# Altium footprint library Connectors.PcbLib: 62 footprints (part 4 of 4)
Each footprint in its own frame and in the unit in brackets; x right, y up, seen from the top. Pads: shape width x height; smd on the part's side, far side on the other; paste and mask are expansions set on the pad; w line width, h text height; cw(c..) or ccw(c..) is an arc to the next point about the centre after c.
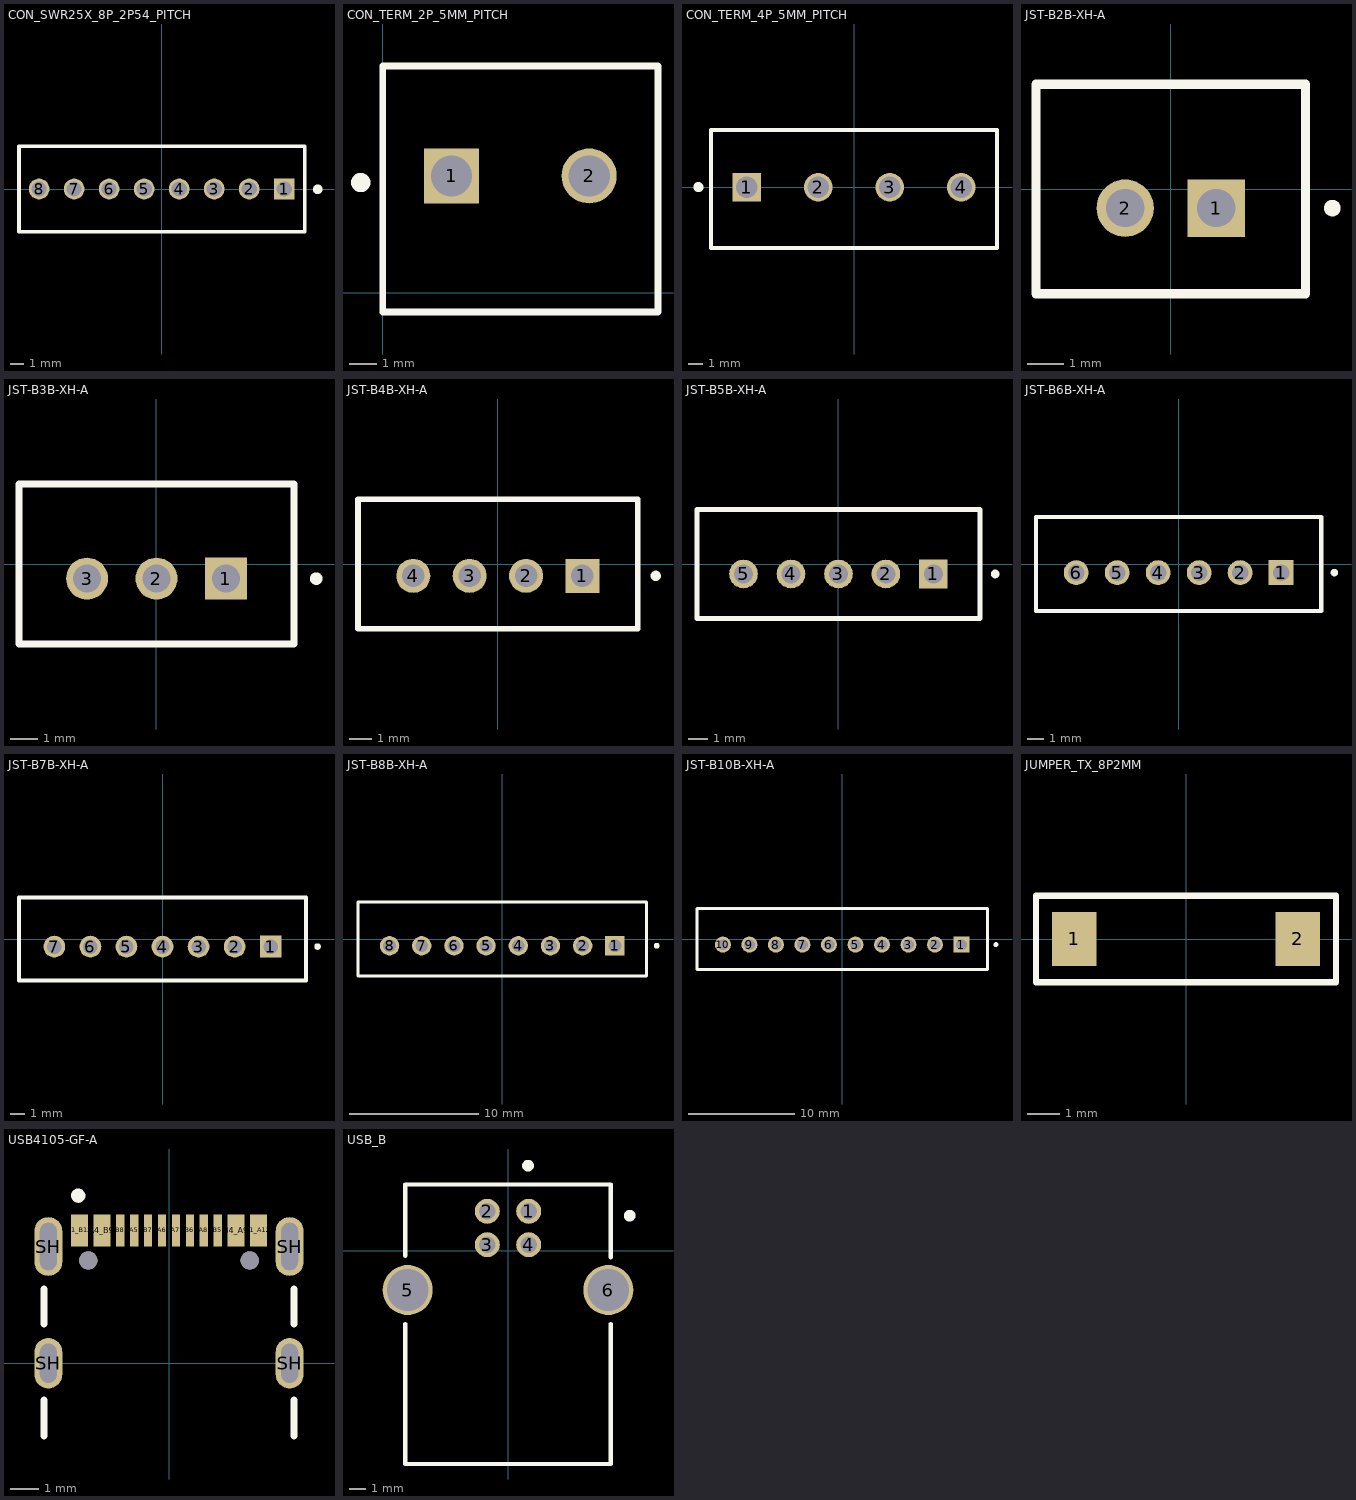
[diagram p3: the footprints below, top view; thin cyan lines are the x and y axes]

## CON_SWR25X_8P_2P54_PITCH [mm]
pads (8):
  rect 1.5x1.5 hole 1.1: 1(8.89,0)
  round 1.5 hole 1.1: 2(6.35,0) 3(3.81,0) 4(1.27,0) 5(-1.27,0) 6(-3.81,0) 7(-6.35,0) 8(-8.89,0)
Top Overlay:
  circle w0.5: c11.312,-0.024 r0.1
  lines w0.254: -10.35,-3.1 10.37,-3.1 10.37,3.1 -10.35,3.1 -10.35,-3.1
3D body "SWR25X-NRTC-S08-ST-BA.STEP": height 11.4, standoff -3.4, extent -10.18,-3.2 10.18,2.6

## CON_TERM_2P_5MM_PITCH [mm]
height 11.45
pads (2):
  rect 2x2 hole 1.5: 1(2.5,4.25)
  round 2 hole 1.5: 2(7.5,4.25)
Top Overlay:
  circle w0.5: c-0.799,4.01 r0.1
  lines w0.254: 0,-0.7 0,8.25 10,8.25 10,-0.7 0,-0.7
3D body "1935161.step": height 11.7, standoff -3.2, extent 0,-0.8 10.4,8.2

## CON_TERM_4P_5MM_PITCH [mm]
pads (4):
  rect 2x2 hole 1.5: 1(-7.5,0)
  round 2 hole 1.5: 2(-2.5,0) 3(2.5,0) 4(7.5,0)
Top Overlay:
  circle w0.5: c-10.881,0.012 r0.1
  lines w0.254: -10,-4.25 -10,4 10,4 10,-4.25 -10,-4.25
3D body "pxc_1935187_06_01_PT-1-5-4-5-0-H_3D.stp": height 11.3, standoff -3.5, extent -10.1,-5 10.57,4

## JST-B2B-XH-A [mm]
height 7
pads (2):
  rect 1.575x1.575 / inner round 1.575 / far side rect 1.575x1.575 hole 1.05: 1(1.25,-0.525)
  round 1.575 hole 1.05: 2(-1.25,-0.525)
Top Overlay:
  circle w0.254: c4.44,-0.525 r0.1
  lines w0.254: -3.7,-2.875 3.7,-2.875 3.7,2.875 -3.7,2.875 -3.7,-2.875
3D body "B2B-XH-A.STEP": height 7, standoff -3.4, extent -3.7,-2.875 3.7,2.875

## JST-B3B-XH-A [mm]
height 7
pads (3):
  rect 1.508x1.508 / inner round 1.508 / far side rect 1.508x1.508 hole 1: 1(2.5,-0.525)
  round 1.508 hole 1: 2(0,-0.525) 3(-2.5,-0.525)
Top Overlay:
  circle w0.254: c5.75,-0.525 r0.1
  lines w0.254: -4.95,-2.875 -4.95,2.875 4.95,2.875 4.95,-2.875 -4.95,-2.875
3D body "step_temp.STEP": height 7, standoff -3.4, extent -4.95,-2.875 4.95,2.875

## JST-B4B-XH-A [mm]
height 7
pads (4):
  rect 1.508x1.508 / inner round 1.508 / far side rect 1.508x1.508 hole 1: 1(3.75,-0.525)
  round 1.508 hole 1: 2(1.25,-0.525) 3(-1.25,-0.525) 4(-3.75,-0.525)
Top Overlay:
  circle w0.254: c7,-0.525 r0.1
  lines w0.254: -6.2,-2.875 -6.2,2.875 6.2,2.875 6.2,-2.875 -6.2,-2.875
3D body "step_temp.STEP": height 7, standoff -3.4, extent -6.2,-2.875 6.2,2.875

## JST-B5B-XH-A [mm]
height 7
pads (5):
  rect 1.508x1.508 / inner round 1.508 / far side rect 1.508x1.508 hole 1: 1(5,-0.525)
  round 1.508 hole 1: 2(2.5,-0.525) 3(0,-0.525) 4(-2.5,-0.525) 5(-5,-0.525)
Top Overlay:
  circle w0.254: c8.25,-0.525 r0.1
  lines w0.254: -7.45,-2.875 -7.45,2.875 7.45,2.875 7.45,-2.875 -7.45,-2.875
3D body "step_temp.STEP": height 7, standoff -3.4, extent -7.45,-2.875 7.45,2.875

## JST-B6B-XH-A [mm]
height 7
pads (6):
  rect 1.508x1.508 / inner round 1.508 / far side rect 1.508x1.508 hole 1: 1(6.25,-0.525)
  round 1.508 hole 1: 2(3.75,-0.525) 3(1.25,-0.525) 4(-1.25,-0.525) 5(-3.75,-0.525) 6(-6.25,-0.525)
Top Overlay:
  circle w0.254: c9.5,-0.525 r0.1
  lines w0.254: -8.7,-2.875 -8.7,2.875 8.7,2.875 8.7,-2.875 -8.7,-2.875
3D body "B6B-XH-A.STEP": height 7, standoff -3.4, extent -8.7,-2.875 8.7,2.875

## JST-B7B-XH-A [mm]
height 7
pads (7):
  rect 1.508x1.508 / inner round 1.508 / far side rect 1.508x1.508 hole 1: 1(7.5,-0.525)
  round 1.508 hole 1: 2(5,-0.525) 3(2.5,-0.525) 4(0,-0.525) 5(-2.5,-0.525) 6(-5,-0.525) 7(-7.5,-0.525)
Top Overlay:
  circle w0.254: c10.75,-0.525 r0.1
  lines w0.254: -9.95,-2.875 -9.95,2.875 9.95,2.875 9.95,-2.875 -9.95,-2.875
3D body "step_temp.STEP": height 7, standoff -3.4, extent -9.95,-2.875 9.95,2.875

## JST-B8B-XH-A [mm]
height 7
pads (8):
  rect 1.508x1.508 / inner round 1.508 / far side rect 1.508x1.508 hole 1: 1(8.75,-0.525)
  round 1.508 hole 1: 2(6.25,-0.525) 3(3.75,-0.525) 4(1.25,-0.525) 5(-1.25,-0.525) 6(-3.75,-0.525) 7(-6.25,-0.525) 8(-8.75,-0.525)
Top Overlay:
  circle w0.254: c12,-0.525 r0.1
  lines w0.254: -11.2,-2.875 11.2,-2.875 11.2,2.875 -11.2,2.875 -11.2,-2.875
3D body "step_temp.STEP": height 7, standoff -3.4, extent -11.2,-2.875 11.2,2.875

## JST-B10B-XH-A [mm]
height 7
pads (10):
  rect 1.508x1.508 / inner round 1.508 / far side rect 1.508x1.508 hole 1: 1(11.25,-0.525)
  round 1.508 hole 1: 2(8.75,-0.525) 3(6.25,-0.525) 4(3.75,-0.525) 5(1.25,-0.525) 6(-1.25,-0.525) 7(-3.75,-0.525) 8(-6.25,-0.525) 9(-8.75,-0.525) 10(-11.25,-0.525)
Top Overlay:
  circle w0.254: c14.5,-0.525 r0.1
  lines w0.254: -13.7,-2.875 -13.7,2.875 13.7,2.875 13.7,-2.875 -13.7,-2.875
3D body "B10B-XH-A.STEP": height 7, standoff -3.4, extent -13.7,-2.875 13.7,2.875

## JUMPER_TX_8P2MM [mm]
pads (2):
  rect 1.4x1.7 smd mask+0.1: 1(-3.5,0) 2(3.5,0)
Top Overlay:
  lines w0.2: -4.7,-1.35 -4.7,-1.2 -4.7,1.35 4.7,1.35 4.7,-1.35 -4.7,-1.35
3D body "TX_8P2MM.STEP": height 0.6, standoff 0, extent -4.1,-0.75 4.1,0.75

## USB4105-GF-A [mm]
height 3.31
pads (18):
  rect 0.6x1.15 smd mask+0: A1_B12(-3.2,4.755) A4_B9(-2.4,4.755) B1_A12(3.2,4.755) B4_A9(2.4,4.755)
  rect 0.3x1.15 smd mask+0: A5(-1.25,4.755) A6(-0.25,4.755) A7(0.25,4.755) A8(1.25,4.755) B5(1.75,4.755) B6(0.75,4.755) B7(-0.75,4.755) B8(-1.75,4.755)
  oval 1x1.8 hole 0.6 slot 1.4 at 90 deg: SH(-4.32,0) SH(4.32,0)
  oval 1x2.1 hole 0.6 slot 1.7 at 90 deg: SH(-4.32,4.18) SH(4.32,4.18)
  round 0.65 hole 0.65 unplated: ""(-2.89,3.68) ""(2.89,3.68)
Top Overlay:
  circle w0.254: c-3.25,6 r0.127
  lines w0.254: -4.47,-2.6 -4.47,-1.32 ; -4.47,1.4 -4.47,2.65 ; 4.47,-2.6 4.47,-1.32 ; 4.47,1.4 4.47,2.65
3D body "USB4105-GF-A.STEP": height 3.31, standoff -1.1, extent -4.47,-2.6 4.47,5.11

## USB_B [mm]
pads (6):
  round 1.5 hole 1: 1(1.245,2.362) 2(-1.245,2.362) 3(-1.245,0.356) 4(1.245,0.356)
  round 3 hole 2.5: 5(-6.02,-2.362) 6(6.02,-2.362)
Top Overlay:
  circle w0.5: c7.3,2.1 r0.1
  circle w0.5: c1.2,5.1 r0.1
  lines w0.254: -6.172,-4.4 -6.172,-12.802 6.172,-12.802 6.172,-4.4 ; -6.172,-0.3 -6.172,3.962 6.172,3.962 6.172,-0.4
3D body "USB-B-S-F-B-TH.stp": height 10.7, standoff -3.74, extent -7.25,-12.85 7.25,3.65